# Altium schematic symbol library LM5013QDDARQ1.SchLib: 1 symbol
Pins are listed as number, name and electrical type; pins without a type are passive.

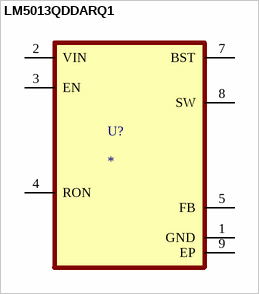
[diagram p0: symbol LM5013QDDARQ1]

## LM5013QDDARQ1
designator U?
footprint LM5013QDDARQ1
pins: 1 GND, 2 VIN, 3 EN, 4 RON, 5 FB, 7 BST, 8 SW, 9 EP